# EAGLE library part ESP32-S3-WROOM-1-N8R8 (library SamacSys_Parts)
WiFi Modules - 802.11 (Engineering Samples Only) SMD Module, ESP32-S3R8 with 8 MB Octal PSRAM Die, 8 MB Quad SPI flash, PCB Antenna Source: Datasheet <https://www.espressif.com/sites/default/files/documentation/esp32-s3-wroom-1_wroom-1u_datasheet_en.pdf>
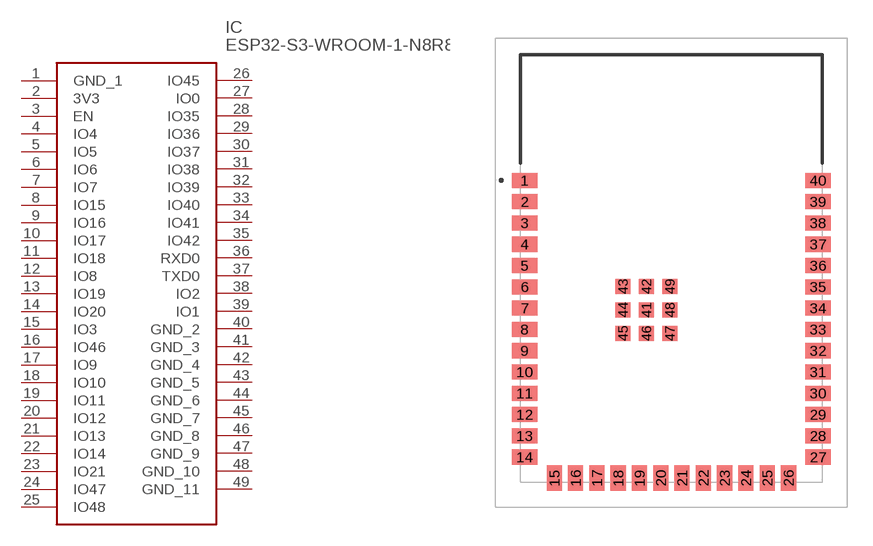
[diagram p228: symbol with the pads of ESP32S3WROOM1N8R8; footprint ESP32S3WROOM1N8R8]

Designator prefix IC

## ESP32-S3-WROOM-1-N8R8 (DESCRIPTION: WiFi Modules - 802.11 (Engineering Samples Only) SMD Module, ESP32-S3R8 with 8 MB Octal PSRAM Die, 8 MB Quad SPI flash, PCB Antenna; HEIGHT: 3.25mm; MANUFACTURER_NAME: Espressif Systems; MANUFACTURER_PART_NUMBER: ESP32-S3-WROOM-1-N8R8)  [ESP32S3WROOM1N8R8]
1  GND_1
2  3V3
3  EN
4  IO4
5  IO5
6  IO6
7  IO7
8  IO15
9  IO16
10  IO17
11  IO18
12  IO8
13  IO19
14  IO20
15  IO3
16  IO46
17  IO9
18  IO10
19  IO11
20  IO12
21  IO13
22  IO14
23  IO21
24  IO47
25  IO48
26  IO45
27  IO0
28  IO35
29  IO36
30  IO37
31  IO38
32  IO39
33  IO40
34  IO41
35  IO42
36  RXD0
37  TXD0
38  IO2
39  IO1
40  GND_2
41  GND_3
42  GND_4
43  GND_5
44  GND_6
45  GND_7
46  GND_8
47  GND_9
48  GND_10
49  GND_11

## Footprint ESP32S3WROOM1N8R8 (pad centres in mm)
ESP32-S3-WROOM-1-N8R8-2
smd 1.5 x 0.9: 1 -8.75,5.26; 2 -8.75,3.99; 3 -8.75,2.72; 4 -8.75,1.45; 5 -8.75,0.18; 6 -8.75,-1.09; 7 -8.75,-2.36; 8 -8.75,-3.63; 9 -8.75,-4.9; 10 -8.75,-6.17; 11 -8.75,-7.44; 12 -8.75,-8.71; 13 -8.75,-9.98; 14 -8.75,-11.25; 27 8.75,-11.25; 28 8.75,-9.98; 29 8.75,-8.71; 30 8.75,-7.44; 31 8.75,-6.17; 32 8.75,-4.9; 33 8.75,-3.63; 34 8.75,-2.36; 35 8.75,-1.09; 36 8.75,0.18; 37 8.75,1.45; 38 8.75,2.72; 39 8.75,3.99; 40 8.75,5.26
smd 0.9 x 1.5: 15 -6.985,-12.5; 16 -5.715,-12.5; 17 -4.445,-12.5; 18 -3.175,-12.5; 19 -1.905,-12.5; 20 -0.635,-12.5; 21 0.635,-12.5; 22 1.905,-12.5; 23 3.175,-12.5; 24 4.445,-12.5; 25 5.715,-12.5; 26 6.985,-12.5
smd 0.9 x 0.9: 41 -1.5,-2.46; 42 -1.5,-1.06; 43 -2.9,-1.06; 44 -2.9,-2.46; 45 -2.9,-3.86; 46 -1.5,-3.86; 47 -0.1,-3.86; 48 -0.1,-2.46; 49 -0.1,-1.06